# Altium footprint library EPG.0B.302.HLN_.PCBLIB: 1 footprints
Each footprint in its own frame and in the unit in brackets; x right, y up, seen from the top. Pads: shape width x height; smd on the part's side, far side on the other; paste and mask are expansions set on the pad; w line width, h text height; cw(c..) or ccw(c..) is an arc to the next point about the centre after c.
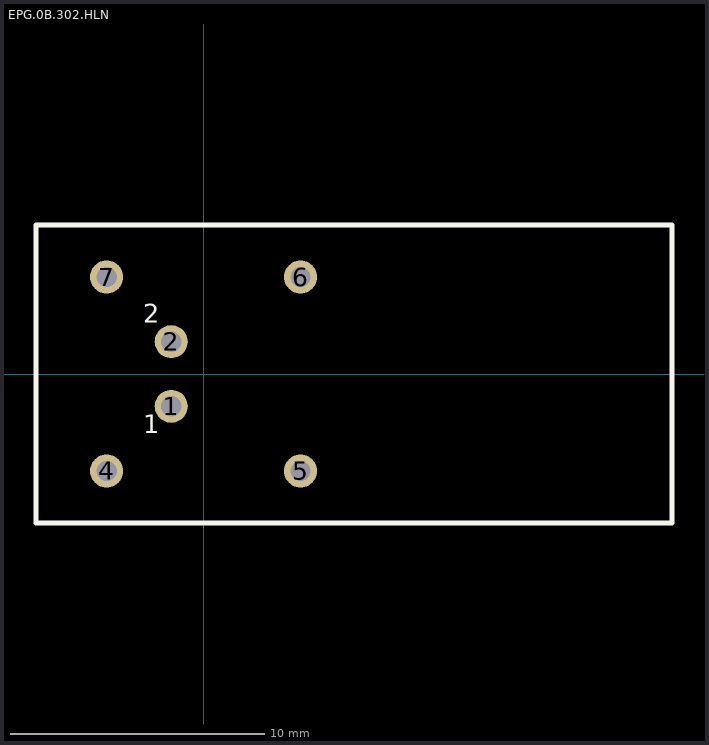
[diagram p0: the footprint, top view; thin cyan lines are the x and y axes]

## EPG.0B.302.HLN [mil]
pads (6):
  round 51.18 hole 31.5: 1(-50,-50) 2(-50,50) 4(-150,-150) 5(150,-150) 6(150,150) 7(-150,150)
Top Overlay:
  lines w7.87: -259.45,-230.32 724.8,-230.32 724.8,230.32 -259.45,230.32 -259.45,-230.32
  text "1" at -93.31,-101.18 h48.83
  text "2" at -93.31,69.69 h48.83
3D body "EPG-0B-302-HLN.step": height 500, standoff -118.11, extent -253.62,-230.31 722.76,230.31